# Altium footprint library Crystal.PcbLib: 180 footprints (part 9 of 12)
Each footprint in its own frame and in the unit in brackets; x right, y up, seen from the top. Pads: shape width x height; smd on the part's side, far side on the other; paste and mask are expansions set on the pad; w line width, h text height; cw(c..) or ccw(c..) is an arc to the next point about the centre after c.
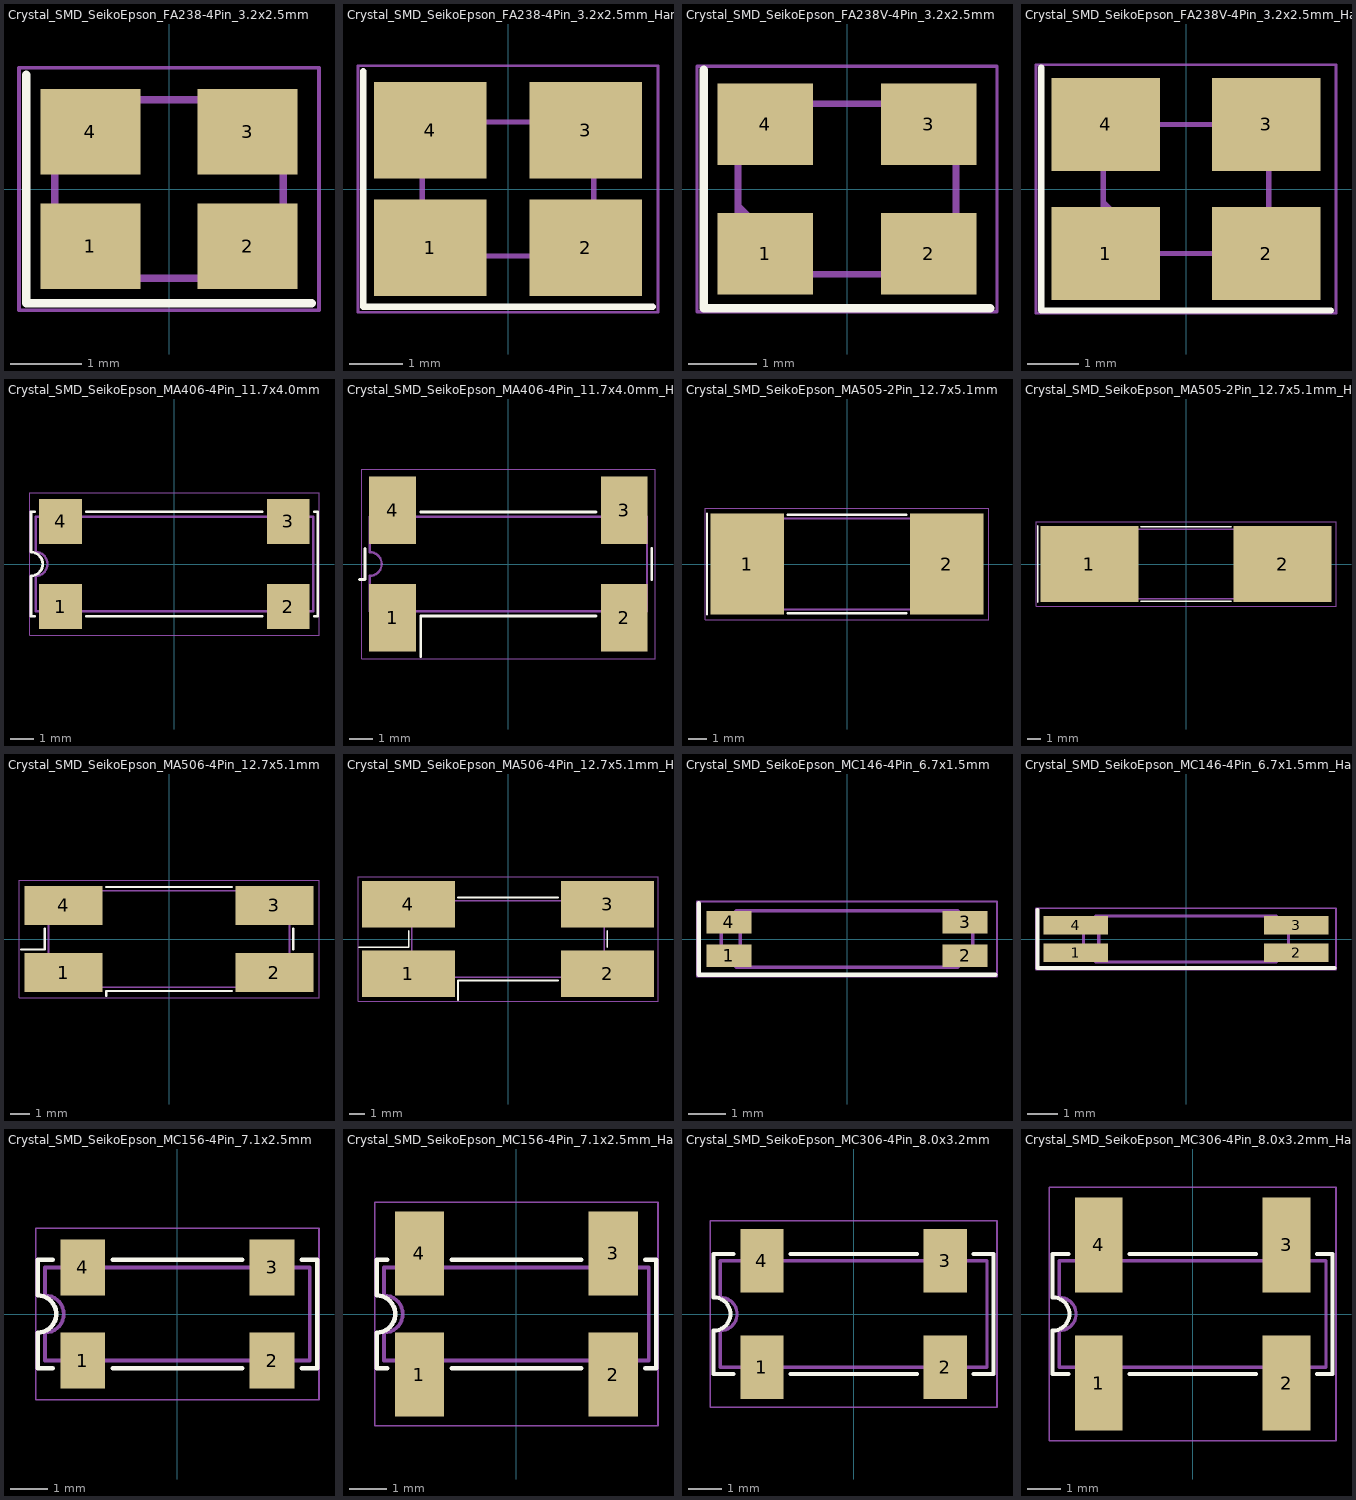
[diagram p8: the footprints below, top view; thin cyan lines are the x and y axes]

## Crystal_SMD_SeikoEpson_FA238-4Pin_3.2x2.5mm [mm]
pads (4):
  rect 1.4x1.2 smd: 1(-1.1,-0.8) 2(1.1,-0.8) 3(1.1,0.8) 4(-1.1,0.8)
F.SilkS:
  lines w0.12: -2,1.6 -2,-1.6 2,-1.6
F.CrtYd:
  lines w0.05: -2.1,-1.7 -2.1,1.7 2.1,1.7 2.1,-1.7 -2.1,-1.7
F.Fab:
  lines w0.1: -1.6,-0.25 -0.6,-1.25 ; -1.6,-1.15 -1.5,-1.25 1.5,-1.25 1.6,-1.15 1.6,1.15 1.5,1.25 -1.5,1.25 -1.6,1.15 -1.6,-1.15
  text "'.Designator'" at -2.833,-0.588 h0.7
3D body "Crystal_SMD_SeikoEpson_FA238-4Pin_3.2x2.5mm.step": height 0.64, standoff 0, extent -1.599,-1.251 1.601,1.25

## Crystal_SMD_SeikoEpson_FA238-4Pin_3.2x2.5mm_HandSoldering [mm]
pads (4):
  rect 2.1x1.8 smd: 1(-1.45,-1.1) 2(1.45,-1.1) 3(1.45,1.1) 4(-1.45,1.1)
F.SilkS:
  lines w0.12: -2.7,2.2 -2.7,-2.2 2.7,-2.2
F.CrtYd:
  lines w0.05: -2.8,-2.3 -2.8,2.3 2.8,2.3 2.8,-2.3 -2.8,-2.3
F.Fab:
  lines w0.1: -1.6,-0.25 -0.6,-1.25 ; -1.6,-1.15 -1.6,1.15 -1.5,1.25 1.5,1.25 1.6,1.15 1.6,-1.15 1.5,-1.25 -1.5,-1.25 -1.6,-1.15
  text "'.Designator'" at -2.833,-0.588 h0.7
3D body "Crystal_SMD_SeikoEpson_FA238-4Pin_3.2x2.5mm_HandSoldering.step": height 0.64, standoff 0, extent -1.599,-1.251 1.601,1.25

## Crystal_SMD_SeikoEpson_FA238V-4Pin_3.2x2.5mm [mm]
pads (4):
  rect 1.4x1.2 smd: 1(-1.2,-0.95) 2(1.2,-0.95) 3(1.2,0.95) 4(-1.2,0.95)
F.SilkS:
  lines w0.12: -2.1,1.75 -2.1,-1.75 2.1,-1.75
F.CrtYd:
  lines w0.05: -2.2,-1.8 -2.2,1.8 2.2,1.8 2.2,-1.8 -2.2,-1.8
F.Fab:
  lines w0.1: -1.6,-0.25 -0.6,-1.25 ; -1.6,-1.15 -1.6,1.15 -1.5,1.25 1.5,1.25 1.6,1.15 1.6,-1.15 1.5,-1.25 -1.5,-1.25 -1.6,-1.15
  text "'.Designator'" at -2.833,-0.588 h0.7
3D body "Crystal_SMD_SeikoEpson_FA238V-4Pin_3.2x2.5mm.step": height 0.64, standoff 0, extent -1.599,-1.251 1.601,1.25

## Crystal_SMD_SeikoEpson_FA238V-4Pin_3.2x2.5mm_HandSoldering [mm]
pads (4):
  rect 2.1x1.8 smd: 1(-1.55,-1.25) 2(1.55,-1.25) 3(1.55,1.25) 4(-1.55,1.25)
F.SilkS:
  lines w0.12: -2.8,2.35 -2.8,-2.35 2.8,-2.35
F.CrtYd:
  lines w0.05: -2.9,-2.4 2.9,-2.4 2.9,2.4 -2.9,2.4 -2.9,-2.4
F.Fab:
  lines w0.1: -1.6,-0.25 -0.6,-1.25 ; -1.6,-1.15 -1.6,1.15 -1.5,1.25 1.5,1.25 1.6,1.15 1.6,-1.15 1.5,-1.25 -1.5,-1.25 -1.6,-1.15
  text "'.Designator'" at -2.833,-0.588 h0.7
3D body "Crystal_SMD_SeikoEpson_FA238V-4Pin_3.2x2.5mm_HandSoldering.step": height 0.64, standoff 0, extent -1.599,-1.251 1.601,1.25

## Crystal_SMD_SeikoEpson_MA406-4Pin_11.7x4.0mm [mm]
pads (4):
  rect 1.8x1.9 smd: 1(-4.8,-1.8) 2(4.8,-1.8) 3(4.8,1.8) 4(-4.8,1.8)
F.SilkS:
  lines w0.12: -5.9,-2.2 -6.05,-2.2 -6.05,-0.5 ccw(c-6.05,0) -6.05,0.5 -6.05,2.2 -5.9,2.2 ; -3.7,-2.2 3.7,-2.2 ; -3.7,2.2 3.7,2.2 ; 5.9,-2.2 6.05,-2.2 6.05,2.2 5.9,2.2
F.CrtYd:
  lines w0.05: -6.1,-3 -6.1,3 6.1,3 6.1,-3 -6.1,-3
F.Fab:
  lines w0.1: -5.85,-2 5.85,-2 5.85,2 -5.85,2 -5.85,0.5 cw(c-5.85,0) -5.85,-0.5 -5.85,-2
  text "'.Designator'" at -4.047,-0.84 h1
3D body "Crystal_SMD_SeikoEpson_MA406-4Pin_11.7x4.0mm.step": height 3.7, standoff 0, extent -5.85,-2.4 5.85,2.4

## Crystal_SMD_SeikoEpson_MA406-4Pin_11.7x4.0mm_HandSoldering [mm]
pads (4):
  rect 1.98x2.85 smd: 1(-4.89,-2.275) 2(4.89,-2.275) 3(4.89,2.275) 4(-4.89,2.275)
F.SilkS:
  lines w0.12: -6.29,-0.65 -6.05,-0.65 -6.05,0.65 ; -3.7,-3.9 -3.7,-2.2 3.7,-2.2 ; -3.7,2.2 3.7,2.2 ; 6.05,-0.65 6.05,0.65
F.CrtYd:
  lines w0.05: -6.2,-4 -6.2,4 6.2,4 6.2,-4 -6.2,-4
F.Fab:
  lines w0.1: -5.85,-2 -5.85,-0.5 ccw(c-5.85,0) -5.85,0.5 -5.85,2 5.85,2 5.85,-2 -5.85,-2
  text "'.Designator'" at -4.047,-0.84 h1
3D body "Crystal_SMD_SeikoEpson_MA406-4Pin_11.7x4.0mm.step": height 3.7, standoff 0, extent -5.85,-2.4 5.85,2.4

## Crystal_SMD_SeikoEpson_MA505-2Pin_12.7x5.1mm [mm]
pads (2):
  rect 4.1x5.6 smd: 1(-5.55,0) 2(5.55,0)
F.SilkS:
  lines w0.12: -7.8,-2.8 -7.8,2.8 ; -3.3,-2.74 3.3,-2.74 ; -3.3,2.74 3.3,2.74
F.CrtYd:
  lines w0.05: -7.9,-3.1 7.9,-3.1 7.9,3.1 -7.9,3.1 -7.9,-3.1
F.Fab:
  lines w0.1: -6.35,-1.54 -5.35,-2.54 ; -6.35,-2.54 -6.35,2.54 6.35,2.54 6.35,-2.54 -6.35,-2.54
  text "'.Designator'" at -4.047,-0.84 h1
3D body "Crystal_SMD_SeikoEpson_MA505-2Pin_12.7x5.1mm.step": height 4.29, standoff 0, extent -6.73,-2.54 6.73,2.54

## Crystal_SMD_SeikoEpson_MA505-2Pin_12.7x5.1mm_HandSoldering [mm]
pads (2):
  rect 7.175x5.6 smd: 1(-7.087,0) 2(7.087,0)
F.SilkS:
  lines w0.12: -10.875,-2.8 -10.875,2.8 ; -3.3,-2.74 3.3,-2.74 ; -3.3,2.74 3.3,2.74
F.CrtYd:
  lines w0.05: -11,-3.1 11,-3.1 11,3.1 -11,3.1 -11,-3.1
F.Fab:
  lines w0.1: -6.35,-1.54 -5.35,-2.54 ; -6.35,-2.54 -6.35,2.54 6.35,2.54 6.35,-2.54 -6.35,-2.54
  text "'.Designator'" at -4.047,-0.84 h1
3D body "Crystal_SMD_SeikoEpson_MA505-2Pin_12.7x5.1mm.step": height 4.29, standoff 0, extent -6.73,-2.54 6.73,2.54

## Crystal_SMD_SeikoEpson_MA506-4Pin_12.7x5.1mm [mm]
pads (4):
  rect 4.1x2.05 smd: 1(-5.55,-1.775) 2(5.55,-1.775) 3(5.55,1.775) 4(-5.55,1.775)
F.SilkS:
  lines w0.12: -7.8,-0.55 -6.55,-0.55 -6.55,0.55 ; -3.3,-3 -3.3,-2.74 3.3,-2.74 ; -3.3,2.74 3.3,2.74 ; 6.55,-0.55 6.55,0.55
F.CrtYd:
  lines w0.05: -7.9,-3.1 -7.9,3.1 7.9,3.1 7.9,-3.1 -7.9,-3.1
F.Fab:
  lines w0.1: -6.35,-1.54 -5.35,-2.54 ; -6.35,-2.54 -6.35,2.54 6.35,2.54 6.35,-2.54 -6.35,-2.54
  text "'.Designator'" at -4.047,-0.84 h1
3D body "Crystal_SMD_SeikoEpson_MA506-4Pin_12.7x5.1mm.step": height 4.29, standoff 0, extent -6.73,-2.54 6.73,2.54

## Crystal_SMD_SeikoEpson_MA506-4Pin_12.7x5.1mm_HandSoldering [mm]
pads (4):
  rect 6.15x3.075 smd: 1(-6.575,-2.288) 2(6.575,-2.288) 3(6.575,2.288) 4(-6.575,2.288)
F.SilkS:
  lines w0.12: -9.85,-0.55 -6.55,-0.55 -6.55,0.55 ; -3.3,-4.025 -3.3,-2.74 3.3,-2.74 ; -3.3,2.74 3.3,2.74 ; 6.55,-0.55 6.55,0.55
F.CrtYd:
  lines w0.05: -9.9,-4.1 9.9,-4.1 9.9,4.1 -9.9,4.1 -9.9,-4.1
F.Fab:
  lines w0.1: -6.35,-1.54 -5.35,-2.54 ; -6.35,-2.54 -6.35,2.54 6.35,2.54 6.35,-2.54 -6.35,-2.54
  text "'.Designator'" at -4.047,-0.84 h1
3D body "Crystal_SMD_SeikoEpson_MA506-4Pin_12.7x5.1mm.step": height 4.29, standoff 0, extent -6.73,-2.54 6.73,2.54

## Crystal_SMD_SeikoEpson_MC146-4Pin_6.7x1.5mm [mm]
pads (4):
  rect 1.2x0.6 smd: 1(-3.15,-0.45) 2(3.15,-0.45) 3(3.15,0.45) 4(-3.15,0.45)
F.SilkS:
  lines w0.12: -3.95,0.95 -3.95,-0.95 3.95,-0.95
F.CrtYd:
  lines w0.05: -4,-1 4,-1 4,1 -4,1 -4,-1
F.Fab:
  lines w0.1: -2.85,-0.75 -2.85,0.75 ; -3.35,-0.35 -3.35,0.35 -2.95,0.75 2.95,0.75 3.35,0.35 3.35,-0.35 2.95,-0.75 -2.95,-0.75 -3.35,-0.35
  text "'.Designator'" at -4.047,-0.84 h1

## Crystal_SMD_SeikoEpson_MC146-4Pin_6.7x1.5mm_HandSoldering [mm]
pads (4):
  rect 2.1x0.6 smd: 1(-3.6,-0.45) 2(3.6,-0.45) 3(3.6,0.45) 4(-3.6,0.45)
F.SilkS:
  lines w0.12: -4.85,0.95 -4.85,-0.95 4.85,-0.95
F.CrtYd:
  lines w0.05: -4.9,-1 -4.9,1 4.9,1 4.9,-1 -4.9,-1
F.Fab:
  lines w0.1: -2.85,-0.75 -2.85,0.75 ; -3.35,-0.35 -2.95,-0.75 2.95,-0.75 3.35,-0.35 3.35,0.35 2.95,0.75 -2.95,0.75 -3.35,0.35 -3.35,-0.35
  text "'.Designator'" at -4.047,-0.84 h1

## Crystal_SMD_SeikoEpson_MC156-4Pin_7.1x2.5mm [mm]
pads (4):
  rect 1.2x1.5 smd: 1(-2.54,-1.25) 2(2.54,-1.25) 3(2.54,1.25) 4(-2.54,1.25)
F.SilkS:
  lines w0.12: -3.34,-1.45 -3.75,-1.45 -3.75,-0.5 ccw(c-3.75,0) -3.75,0.5 -3.75,1.45 -3.34,1.45 ; -1.74,-1.45 1.74,-1.45 ; -1.74,1.45 1.74,1.45 ; 3.34,-1.45 3.75,-1.45 3.75,1.45 3.34,1.45
F.CrtYd:
  lines w0.05: -3.8,-2.3 -3.8,2.3 3.8,2.3 3.8,-2.3 -3.8,-2.3
F.Fab:
  lines w0.1: -3.55,-1.25 3.55,-1.25 3.55,1.25 -3.55,1.25 -3.55,0.5 cw(c-3.55,0) -3.55,-0.5 -3.55,-1.25
  text "'.Designator'" at -4.047,-0.84 h1

## Crystal_SMD_SeikoEpson_MC156-4Pin_7.1x2.5mm_HandSoldering [mm]
pads (4):
  rect 1.32x2.25 smd: 1(-2.6,-1.625) 2(2.6,-1.625) 3(2.6,1.625) 4(-2.6,1.625)
F.SilkS:
  lines w0.12: -3.46,-1.45 -3.75,-1.45 -3.75,-0.5 ccw(c-3.75,0) -3.75,0.5 -3.75,1.45 -3.46,1.45 ; -1.74,-1.45 1.74,-1.45 ; -1.74,1.45 1.74,1.45 ; 3.46,-1.45 3.75,-1.45 3.75,1.45 3.46,1.45
F.CrtYd:
  lines w0.05: -3.8,-3 3.8,-3 3.8,3 -3.8,3 -3.8,-3
F.Fab:
  lines w0.1: -3.55,-1.25 -3.55,-0.5 ccw(c-3.55,0) -3.55,0.5 -3.55,1.25 3.55,1.25 3.55,-1.25 -3.55,-1.25
  text "'.Designator'" at -4.047,-0.84 h1

## Crystal_SMD_SeikoEpson_MC306-4Pin_8.0x3.2mm [mm]
pads (4):
  rect 1.3x1.9 smd: 1(-2.75,-1.6) 2(2.75,-1.6) 3(2.75,1.6) 4(-2.75,1.6)
F.SilkS:
  lines w0.12: -3.6,-1.8 -4.2,-1.8 -4.2,-0.5 ccw(c-4.2,0) -4.2,0.5 -4.2,1.8 -3.6,1.8 ; -1.9,-1.8 1.9,-1.8 ; -1.9,1.8 1.9,1.8 ; 3.6,-1.8 4.2,-1.8 4.2,1.8 3.6,1.8
F.CrtYd:
  lines w0.05: -4.3,-2.8 -4.3,2.8 4.3,2.8 4.3,-2.8 -4.3,-2.8
F.Fab:
  lines w0.1: -4,-1.6 4,-1.6 4,1.6 -4,1.6 -4,0.5 cw(c-4,0) -4,-0.5 -4,-1.6
  text "'.Designator'" at -4.047,-0.84 h1

## Crystal_SMD_SeikoEpson_MC306-4Pin_8.0x3.2mm_HandSoldering [mm]
pads (4):
  rect 1.43x2.85 smd: 1(-2.815,-2.075) 2(2.815,-2.075) 3(2.815,2.075) 4(-2.815,2.075)
F.SilkS:
  lines w0.12: -3.73,-1.8 -4.2,-1.8 -4.2,-0.5 ccw(c-4.2,0) -4.2,0.5 -4.2,1.8 -3.73,1.8 ; -1.9,-1.8 1.9,-1.8 ; -1.9,1.8 1.9,1.8 ; 3.73,-1.8 4.2,-1.8 4.2,1.8 3.73,1.8
F.CrtYd:
  lines w0.05: -4.3,-3.8 -4.3,3.8 4.3,3.8 4.3,-3.8 -4.3,-3.8
F.Fab:
  lines w0.1: -4,-1.6 -4,-0.5 ccw(c-4,0) -4,0.5 -4,1.6 4,1.6 4,-1.6 -4,-1.6
  text "'.Designator'" at -4.047,-0.84 h1